# Altium schematic symbol library Dzmitry_Tamashevich_library.SchLib: 3 symbols
Pins are listed as number, name and electrical type; pins without a type are passive.

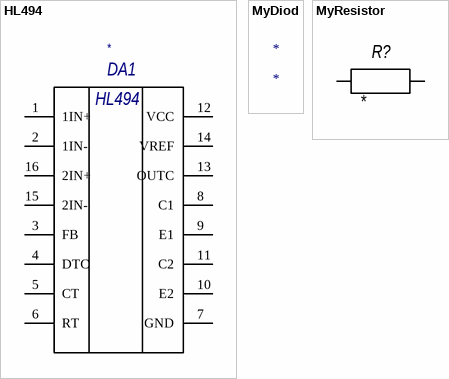
[diagram p0: symbols HL494 to MyResistor]

## HL494
designator *, comment DA1
pins: 1 1IN+, 2 1IN-, 3 FB, 4 DTC, 5 CT, 6 RT, 7 GND, 8 C1, 9 E1, 10 E2, 11 C2, 12 VCC, 13 OUTC, 14 VREF, 15 2IN-, 16 2IN+

## MyDiod
designator *

## MyResistor
designator R?
Model: *; Manufacture: *; Case: *; Help URL: *; Value: *
footprint R1206 (Footprint not found)
pins: 1, 2